# EAGLE library part SV80 (library Lumberg)
Inner part of SV80
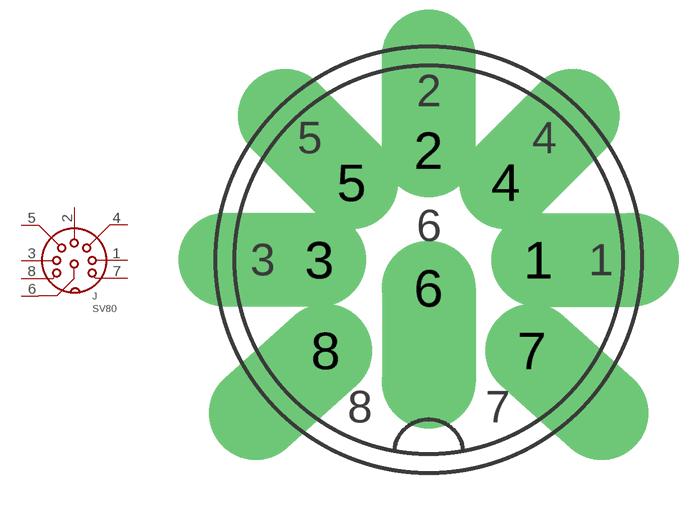
[diagram p4: symbol with the pads of SV80_INNER; footprint SV80_INNER]

Designator prefix J

## SV80  [SV80_INNER]
1  1
2  2
3  3
4  4
5  5
6  6
7  7
8  8

## Footprint SV80_INNER (pad centres in mm)
drill 2 pad 2.413 offset: 1 3.5,0; 2 0,3.5; 3 -3.5,0; 4 2.47,2.47; 5 -2.47,2.47; 7 3.3,-2.9; 8 -3.3,-2.9
drill 2 pad 2.54 offset: 6 0,-0.9